# EAGLE library part ST1L05 (library Regulator)
Low Drop Out DFN style Regulator Max 1.3A current
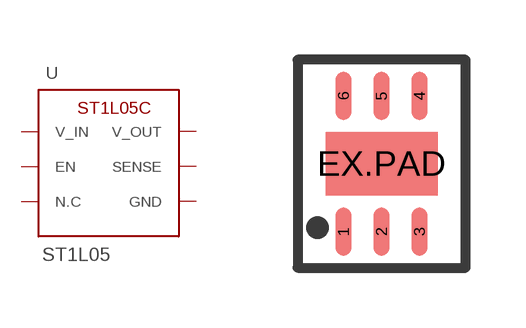
[diagram p1: symbol with the pads of DFN-6(3X3); footprint DFN-6(3X3)]

Designator prefix U

## ST1L05CPU33R  [DFN-6(3X3)]
1  EN  pwr
2  GND  sup
3  N.C  nc
4  V_OUT  pwr
5  SENSE  pwr
6  V_IN  pwr
EX.PAD  GND  sup

## Footprint DFN-6(3X3) (pad centres in mm)
smd 0.4 x 1.2: 1 -0.95,-1.7; 2 0,-1.7; 3 0.95,-1.7; 4 0.95,1.7; 5 0,1.7; 6 -0.95,1.7
smd 2.8 x 1.6: EX.PAD 0,0